# EAGLE library part JS202011SCQN (library Ooo-Switches)
J&K JS202011SCQN DPDT Gullwing
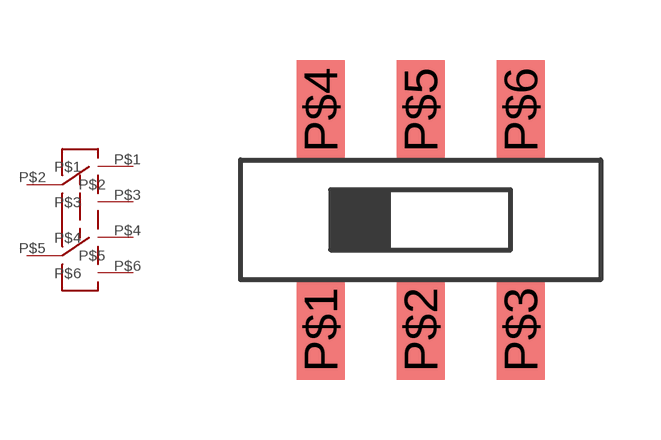
[diagram p0: symbol with the pads of JS202011SCQN; footprint JS202011SCQN]

Designator prefix -

## JS202011SCQN  [JS202011SCQN]
P$1  P$1
P$2  P$2
P$3  P$3
P$4  P$4
P$5  P$5
P$6  P$6

## Footprint JS202011SCQN (pad centres in mm)
C&K JS Series Sub-Miniature Slide Switch JS202011SCQN DPDT SMT Gullwing
smd 1.2 x 2.5: P$1 -2.5,-2.75; P$2 0,-2.75; P$3 2.5,-2.75; P$4 -2.5,2.75; P$5 0,2.75; P$6 2.5,2.75